# Altium footprint library BNC-KWE-6.PcbLib: 1 footprints
Each footprint in its own frame and in the unit in brackets; x right, y up, seen from the top. Pads: shape width x height; smd on the part's side, far side on the other; paste and mask are expansions set on the pad; w line width, h text height; cw(c..) or ccw(c..) is an arc to the next point about the centre after c.
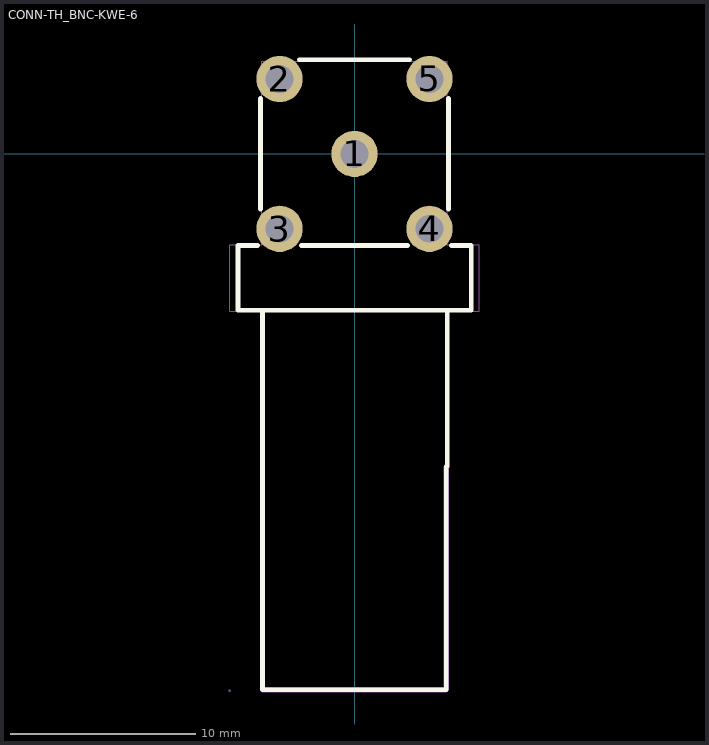
[diagram p0: the footprint, top view; thin cyan lines are the x and y axes]

## CONN-TH_BNC-KWE-6 [mil]
pads (5):
  round 98.4 hole 59.1: 1(0,0) 2(-159.4,159.4) 3(-159.4,-159.4) 4(159.5,-159.4) 5(159.5,159.4)
Top Overlay:
  lines w10: -205.6,-195 -248,-195 -248,-332.8 248,-332.8 248,-195 205.7,-195 ; -200,-117.6 -200,117.6 ; -195.9,-332.8 -195.9,-665 -195.9,-1140 195,-1140 195,-665 ; -117.6,200 117.6,200 ; -113.2,-195 113.3,-195 ; 197.1,-665 197.1,-332.8 ; 200,-117.6 200,117.6
Mechanical 6:
  region: -190.9,-665 -190.9,-1135 190,-1135 190,-665 190.4,-663.1 191.5,-661.5 193.1,-660.4 195,-660 196.9,-660.4 198.5,-661.5 199.6,-663.1 200,-665 200,-1140 199.6,-1141.9 198.5,-1143.5 196.9,-1144.6 195,-1145 -195.9,-1145 -197.8,-1144.6 -199.4,-1143.5 -200.5,-1141.9 -200.9,-1140 -200.9,-665 -200.5,-663.1 -199.4,-661.5 -197.8,-660.4 -195.9,-660 -194,-660.4 -192.4,-661.5 -191.3,-663.1
Mechanical 7:
  lines w2: -265.7,-334.6 -196.8,-334.6 -196.8,-1141.7 196.9,-1141.7 196.9,-334.6 265.8,-334.6 265.8,-192.9 196.9,-192.9 196.9,196.9 -196.8,196.9 -196.8,-192.9 -265.7,-192.9 -265.7,-334.6
Mechanical 8:
  region: -263.4,-1141.7 -263.8,-1143 -264.8,-1143.9 -266.1,-1144.1 -267.3,-1143.5 -268,-1142.4 -268,-1141.1 -267.3,-1139.9 -266.1,-1139.4 -264.8,-1139.6 -263.8,-1140.5
Mechanical 9:
  region: 24.6,0 24.2,-4.4 23,-8.6 21.1,-12.6 18.5,-16.2 15.3,-19.2 11.7,-21.7 7.6,-23.4 3.3,-24.4 -1.1,-24.6 -5.5,-24 -9.7,-22.6 -13.5,-20.5 -17,-17.8 -19.9,-14.5 -22.2,-10.7 -23.7,-6.5 -24.5,-2.2 -24.5,2.2 -23.7,6.5 -22.2,10.7 -19.9,14.5 -17,17.8 -13.5,20.5 -9.7,22.6 -5.5,24 -1.1,24.6 3.3,24.4 7.6,23.4 11.7,21.7 15.3,19.2 18.5,16.2 21.1,12.6 23,8.6 24.2,4.4
  region: -178.1,178.2 -140.7,178.2 -140.7,140.7 -178.1,140.7
  region: -178.1,-140.7 -140.7,-140.7 -140.7,-178.2 -178.1,-178.2
  region: 140.8,-140.7 178.2,-140.7 178.2,-178.2 140.8,-178.2
  region: 140.8,178.2 178.2,178.2 178.2,140.7 140.8,140.7